# EAGLE library part USBC-UJ31 (library Brenocq-eagle)
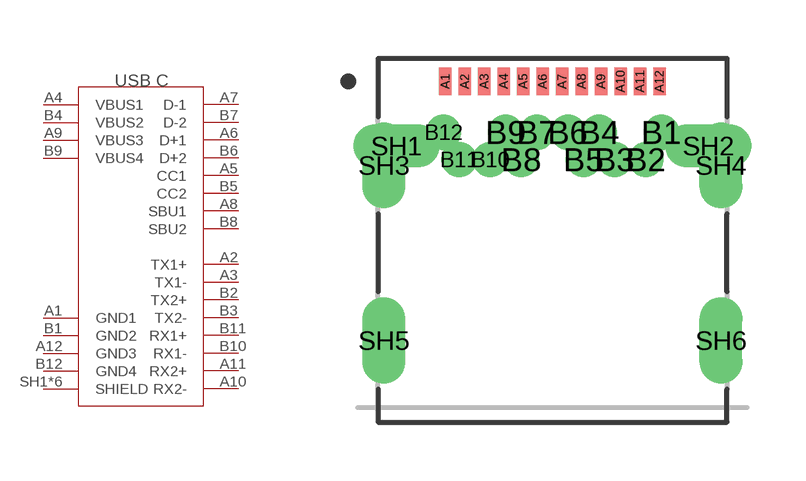
[diagram p2: symbol with the pads of USBC-UJ31; footprint USBC-UJ31]

Designator prefix -

## USBC-UJ31  [USBC-UJ31]
A1  GND1  pwr
A2  TX1+
A3  TX1-
A4  VBUS1
A5  CC1
A6  D+1
A7  D-1
A8  SBU1
A9  VBUS3
A10  RX2-
A11  RX2+
A12  GND3  pwr
B1  GND2  pwr
B2  TX2+
B3  TX2-
B4  VBUS2
B5  CC2
B6  D+2
B7  D-2
B8  SBU2
B9  VBUS4
B10  RX1-
B11  RX1+
B12  GND4  pwr
SH1  SHIELD  pwr
SH2  SHIELD  pwr
SH3  SHIELD  pwr
SH4  SHIELD  pwr
SH5  SHIELD  pwr
SH6  SHIELD  pwr

## Footprint USBC-UJ31 (pad centres in mm)
UJ31-CH-3-SMT-TR
smd 0.32 x 0.7: A1 -2.769,2.032; A2 -2.269,2.032; A3 -1.769,2.032; A4 -1.269,2.032; A5 -0.769,2.032; A6 -0.269,2.032; A7 0.231,2.032; A8 0.731,2.032; A9 1.231,2.032; A10 1.731,2.032; A11 2.231,2.032; A12 2.731,2.032
drill 0.4 pad 0.6: B1 2.781,0.722; B2 2.381,0.022; B3 1.581,0.022; B4 1.181,0.722; B5 0.781,0.022; B6 0.381,0.722; B7 -0.419,0.722; B8 -0.819,0.022; B9 -1.219,0.722; B10 -1.619,0.022; B11 -2.419,0.022; B12 -2.819,0.722
drill 0.6 pad 0.8 long: SH1 -4.024,0.372; SH2 3.986,0.372
drill 0.6 pad 0.9 long: SH3 -4.349,-0.128; SH4 4.311,-0.128; SH5 -4.349,-4.628; SH6 4.311,-4.628